# Altium footprint library Transformators_rus.PCBLIB: 18 footprints (part 1 of 2)
Each footprint in its own frame and in the unit in brackets; x right, y up, seen from the top. Pads: shape width x height; smd on the part's side, far side on the other; paste and mask are expansions set on the pad; w line width, h text height; cw(c..) or ccw(c..) is an arc to the next point about the centre after c.
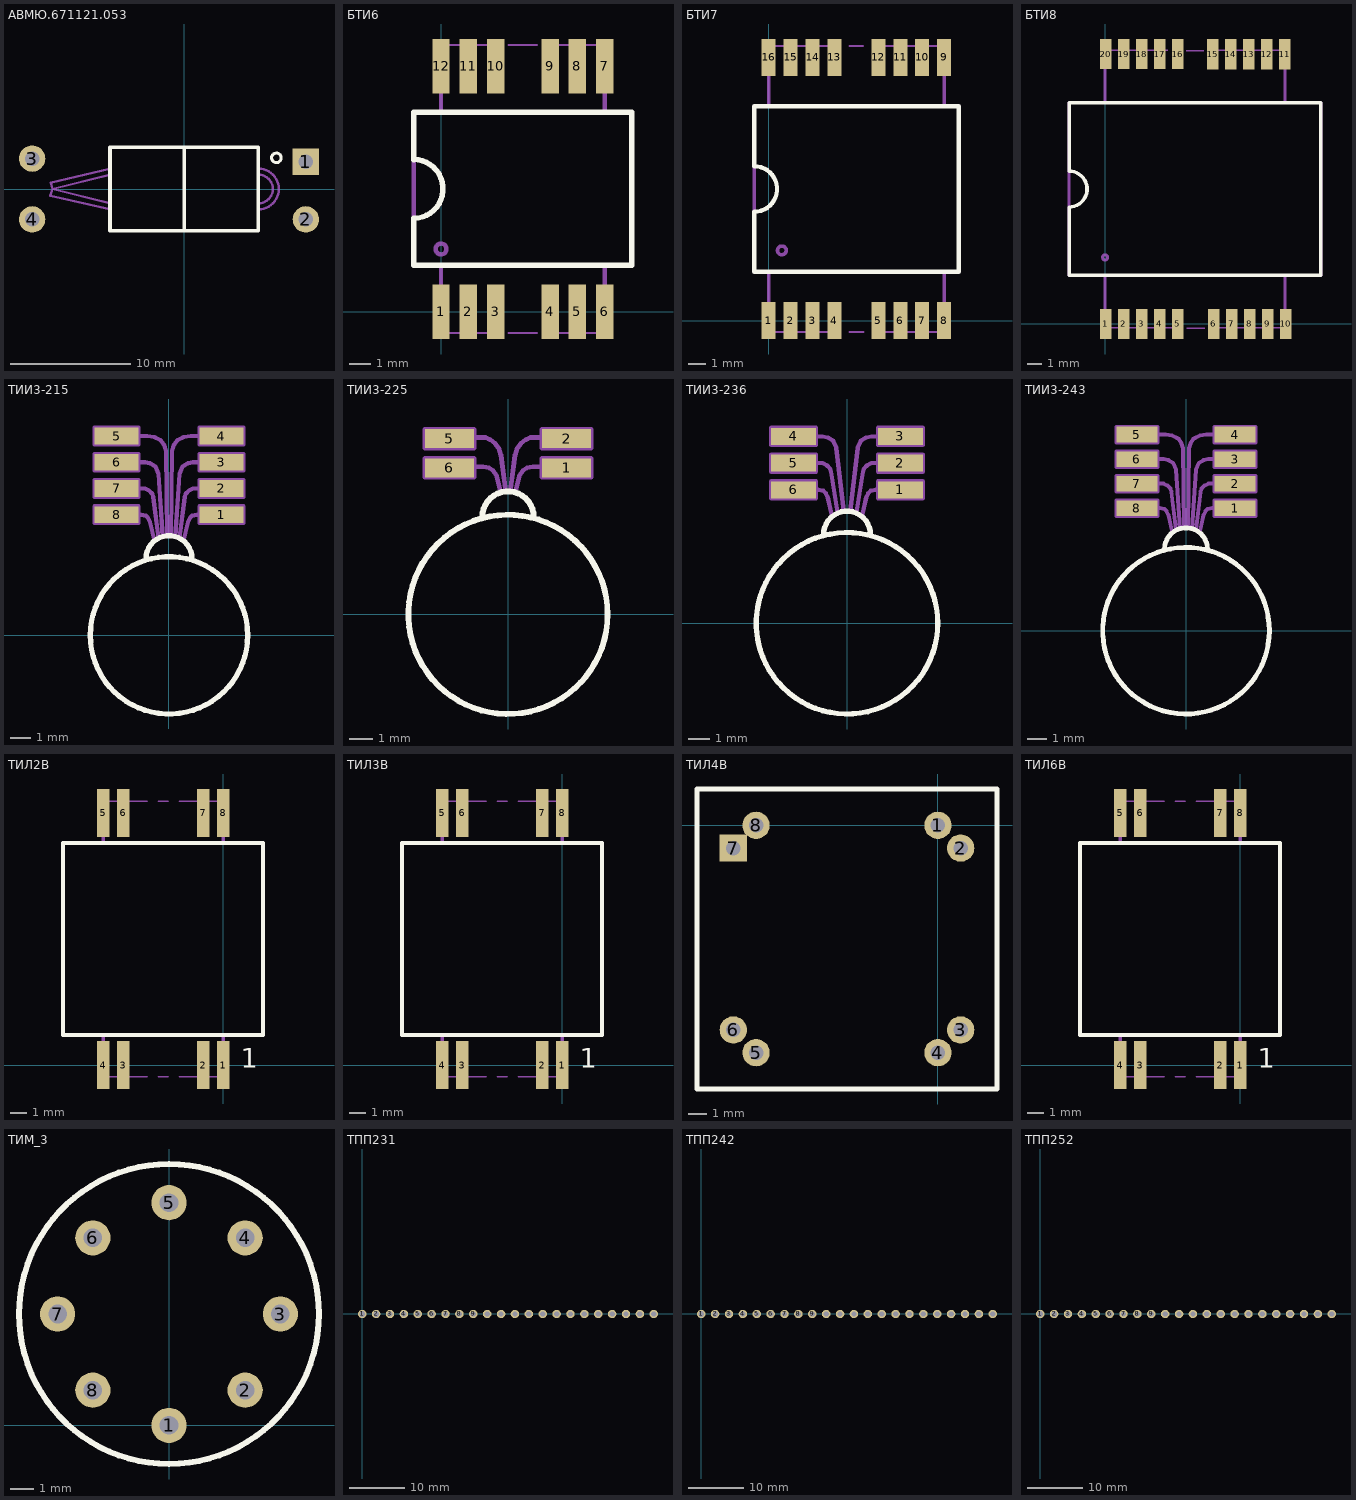
[diagram p0: the footprints below, top view; thin cyan lines are the x and y axes]

## АВМЮ.671121.053 [mm]
height 4.2
pads (4):
  rect 2.2x2.2 hole 1.2: 1(10.16,2.286)
  round 2.2 hole 1.2: 2(10.16,-2.54) 3(-12.7,2.54) 4(-12.7,-2.54)
Top Overlay:
  circle w0.254: c7.7,2.6 r0.4
  lines w0.3: 0,-3.5 0,3.5 ; -6.2,-3.5 -6.2,3.5 6.2,3.5 6.2,-3.5 -6.2,-3.5
Mechanical 1:
  lines w0.2: -6.2,-1.7 -11.192,-0.565 -11,0 ; -6.2,-1.2 -11,0 ; -6.2,1.2 -11,0 ; -6.2,1.7 -11.152,0.531 -11,0 ; 6.2,-1.7 ccw(c6.2,0) 6.2,1.7 ; 6.2,-1.2 ccw(c6.2,0) 6.2,1.2 ; 0,-3.5 0,3.5 ; 0,-3.5 6.2,-3.5 6.2,3.5 0,3.5 ; 0,-3.5 -6.2,-3.5 -6.2,3.5 0,3.5
  text ".Designator" at -3.1,4.3 h1.5
  text "1" at 12.5,1.7 h2
  text "2" at 12.6,-3.2 h2
  text "4" at -10.7,-3.4 h2
  text "3" at -10.4,2.1 h2
3D body: height 4.2, standoff 0, extent -11.22,-3.5 8.42,3.5

## БТИ6 [mm]
height 2.5
pads (12):
  rect 0.8x2.5 smd: 1(0,0) 2(1.25,0) 3(2.5,0) 4(5,0) 5(6.25,0) 6(7.5,0) 7(7.5,11.25) 8(6.25,11.25) 9(5,11.25) 10(2.5,11.25) 11(1.25,11.25) 12(0,11.25)
Top Overlay:
  lines w0.25: -1.251,4.28 ccw(c-1.26,5.63) -1.251,6.98 ; -1.25,4.275 -1.25,2.125 8.74,2.13 ; -1.25,6.975 -1.25,9.125 ; -1.25,9.15 8.75,9.15 ; 8.74,9.13 8.75,2.125
Mechanical 1:
  circle w0.2: c0,2.875 r0.25
  lines w0.1: 0,-0.975 2.5,-0.975 ; 0,12.225 2.5,12.225 ; 3.1,-0.975 4.4,-0.975 ; 3.1,12.225 4.4,12.225 ; 5,-0.975 7.5,-0.975 ; 5,12.225 7.5,12.225
  lines w0.2: 0,-0.975 0,2.025 ; 0,9.125 0,12.225 ; 7.5,-0.975 7.5,2.075 ; 7.5,9.125 7.5,12.225 ; -1.25,2.125 8.75,2.125 8.75,9.125 -1.25,9.125 -1.25,2.125
  text ".Designator" at 2.529,6.604 h1.5
  text ".Comment" at 0.629,4.504 h1.5
  text "12" at 0.762,10.414 h1.5

## БТИ7 [mm]
height 2.5
pads (16):
  rect 0.8x2.1 smd: 1(0,0) 2(1.25,0) 3(2.5,0) 4(3.75,0) 5(6.25,0) 6(7.5,0) 7(8.75,0) 8(10,0) 9(10,15) 10(8.75,15) 11(7.5,15) 12(6.25,15) 13(3.75,15) 14(2.5,15) 15(1.25,15) 16(0,15)
Top Overlay:
  lines w0.25: -0.825,2.775 -0.825,6.2 ccw(c-0.825,7.5) -0.825,8.8 -0.825,12.225 10.825,12.225 10.825,2.775 -0.825,2.775
Mechanical 1:
  circle w0.2: c0.75,4 r0.25
  lines w0.1: 0,-0.65 3.75,-0.65 ; 0,15.65 3.625,15.65 ; 4.6,-0.65 5.4,-0.65 ; 4.6,15.65 5.395,15.65 ; 6.25,-0.65 10,-0.65 ; 6.375,15.65 10,15.65
  lines w0.2: 0,-0.65 0,2.775 ; 0,12.225 0,15.65 ; 10,-0.65 10,2.775 ; 10,12.225 10,15.65 ; -0.825,2.775 -0.825,12.225 10.825,12.225 10.825,2.775 -0.825,2.775
  text ".Designator" at 3.926,8.382 h1.5
  text ".Comment" at 2.026,6.282 h1.5
  text "16" at 0.889,13.462 h1.5

## БТИ8 [mm]
height 4
pads (20):
  rect 0.8x2.1 smd: 1(0.045,0.005) 2(1.295,0.005) 3(2.545,0.005) 4(3.795,0.005) 5(5.045,0.005) 6(7.545,0.005) 7(8.795,0.005) 8(10.045,0.005) 9(11.295,0.005) 10(12.545,0.005) 11(12.5,18.75) 12(11.25,18.75) 13(10,18.75) 14(8.75,18.75) 15(7.5,18.75) 16(5.045,18.755) 17(3.795,18.755) 18(2.545,18.755) 19(1.295,18.755) 20(0.045,18.755)
Top Overlay:
  lines w0.25: -2.5,3.375 15,3.375 15,15.375 -2.5,15.375 -2.5,10.625 cw(c-2.5,9.375) -2.5,8.125 -2.5,3.375
Mechanical 1:
  circle w0.2: c0,4.625 r0.18
  lines w0.1: 0,-0.275 5,-0.275 ; 0,19.025 4.35,19.025 ; 5.625,19 6.875,19 ; 5.675,-0.3 6.925,-0.3 ; 7.5,-0.275 12.5,-0.275 ; 7.5,19.025 12.5,19.025
  lines w0.2: 0,-0.275 0,3.375 ; 0,15.375 0,19.025 ; 12.5,-0.275 12.5,3.375 ; 12.5,15.375 12.5,19.025 ; -2.5,3.375 15,3.375 15,15.375 -2.5,15.375 -2.5,3.375
  text "20" at 0.762,16.637 h1.5
  text ".Comment" at 3.296,8.187 h1.5
  text ".Designator" at 5.196,10.287 h1.5

## ТИИ3-215 [mm]
height 1.8
pads (8):
  rect 2.1x0.8 smd: 1(2.5,5.75) 2(2.5,7) 3(2.5,8.25) 4(2.5,9.5) 5(-2.5,9.5) 6(-2.5,8.25) 7(-2.5,7) 8(-2.5,5.75)
Top Overlay:
  circle w0.25: c0,0 r3.75
  lines w0.25: -1.1,3.65 cw(c0,3.65) 1.1,3.65
Mechanical 1:
  circle w0.2: c0,0 r3.75
  lines w0.2: -3,5.75 -1.35,5.75 -1.1,5.7 -1,5.6 -0.9,5.4 -0.7,4.5 ; -3,7 -1.15,7 -0.95,6.9 -0.8,6.75 -0.75,6.6 -0.5,4.65 ; -3,8.25 -1.15,8.25 -0.9,8.2 -0.65,8.05 -0.5,7.7 -0.3,4.7 ; -3,9.5 -1.05,9.5 -0.7,9.45 -0.4,9.3 -0.25,9.1 -0.15,8.8 -0.1,4.75 ; -1.1,3.65 cw(c0,3.65) 1.1,3.65 ; 0.1,4.75 0.15,8.8 0.25,9.1 0.4,9.3 0.7,9.45 1.05,9.5 3,9.5 ; 0.3,4.7 0.5,7.7 0.65,8.05 0.9,8.2 1.15,8.25 3,8.25 ; 0.5,4.65 0.75,6.6 0.8,6.75 0.95,6.9 1.15,7 3,7 ; 0.7,4.5 0.9,5.4 1,5.6 1.1,5.7 1.35,5.75 3,5.75 ; -3.55,5.35 -1.45,5.35 -1.45,6.15 -3.55,6.15 -3.55,5.35 ; -3.55,6.6 -1.45,6.6 -1.45,7.4 -3.55,7.4 -3.55,6.6 ; -3.55,7.85 -1.45,7.85 -1.45,8.65 -3.55,8.65 -3.55,7.85 ; -3.55,9.1 -1.45,9.1 -1.45,9.9 -3.55,9.9 -3.55,9.1 ; 1.45,5.35 3.55,5.35 3.55,6.15 1.45,6.15 1.45,5.35 ; 1.45,6.6 3.55,6.6 3.55,7.4 1.45,7.4 1.45,6.6 ; 1.45,7.85 3.55,7.85 3.55,8.65 1.45,8.65 1.45,7.85 ; 1.45,9.1 1.45,9.9 3.55,9.9 3.55,9.1 1.45,9.1
  text ".Designator" at -0.773,0.762 h1.5
  text ".Comment" at -2.673,-1.338 h1.5

## ТИИ3-225 [mm]
height 1.8
pads (4):
  rect 2.1x0.8 smd: 1(2.5,6.25) 2(2.5,7.5) 5(-2.5,7.5) 6(-2.5,6.25)
Top Overlay:
  circle w0.25: c0,0 r4.25
  lines w0.25: -1.1,4.15 cw(c0,4.15) 1.1,4.15
Mechanical 1:
  circle w0.2: c0,0 r4.25
  lines w0.2: -2.9,6.3 -1.05,6.3 -0.8,6.25 -0.65,6.15 -0.5,5.95 -0.3,5.2 ; -2.9,7.55 -0.95,7.55 -0.75,7.45 -0.55,7.3 -0.4,7.1 -0.3,6.8 -0.1,5.25 ; -1.1,4.15 cw(c0,4.15) 1.1,4.15 ; 0.1,5.25 0.3,6.8 0.4,7.1 0.55,7.3 0.75,7.45 0.95,7.55 2.9,7.55 ; 0.3,5.2 0.5,5.95 0.65,6.15 0.8,6.25 1.05,6.3 2.9,6.3 ; -3.55,5.85 -3.55,6.65 -1.45,6.65 -1.45,5.85 -3.55,5.85 ; -3.55,7.1 -3.55,7.9 -1.45,7.9 -1.45,7.1 -3.55,7.1 ; 1.45,5.85 1.45,6.65 3.55,6.65 3.55,5.85 1.45,5.85 ; 1.45,7.1 1.45,7.9 3.55,7.9 3.55,7.1 1.45,7.1
  text ".Designator" at -0.9,0.762 h1.5
  text ".Comment" at -2.8,-1.338 h1.5

## ТИИ3-236 [mm]
height 1.8
pads (6):
  rect 2.1x0.8 smd: 1(2.5,6.25) 2(2.5,7.5) 3(2.5,8.75) 4(-2.5,8.75) 5(-2.5,7.5) 6(-2.5,6.25)
Top Overlay:
  circle w0.25: c0,0 r4.25
  lines w0.25: -1.1,4.15 cw(c0,4.15) 1.1,4.15
Mechanical 1:
  circle w0.2: c0,0 r4.25
  lines w0.2: -3,6.25 -1.35,6.25 -1.1,6.2 -1,6.1 -0.9,5.9 -0.7,5 ; -3,7.5 -1.15,7.5 -0.95,7.4 -0.8,7.25 -0.75,7.1 -0.45,5.2 ; -3,8.75 -1.15,8.75 -0.9,8.7 -0.65,8.55 -0.5,8.2 -0.15,5.25 ; -1.1,4.15 cw(c0,4.15) 1.1,4.15 ; 0.15,5.25 0.5,8.2 0.65,8.55 0.9,8.7 1.15,8.75 3,8.75 ; 0.45,5.2 0.75,7.1 0.8,7.25 0.95,7.4 1.15,7.5 3,7.5 ; 0.7,5 0.9,5.9 1,6.1 1.1,6.2 1.35,6.25 3,6.25 ; -3.55,5.85 -3.55,6.65 -1.45,6.65 -1.45,5.85 -3.55,5.85 ; -3.55,7.1 -3.55,7.9 -1.45,7.9 -1.45,7.1 -3.55,7.1 ; -3.55,8.35 -3.55,9.15 -1.45,9.15 -1.45,8.35 -3.55,8.35 ; 1.45,5.85 1.45,6.65 3.55,6.65 3.55,5.85 1.45,5.85 ; 1.45,7.1 1.45,7.9 3.55,7.9 3.55,7.1 1.45,7.1 ; 1.45,8.35 1.45,9.15 3.55,9.15 3.55,8.35 1.45,8.35
  text ".Comment" at -3.181,-1.211 h1.5
  text ".Designator" at -1.281,0.889 h1.5

## ТИИ3-243 [mm]
height 1.8
pads (8):
  rect 2.1x0.8 smd: 1(2.5,6.25) 2(2.5,7.5) 3(2.5,8.75) 4(2.5,10) 5(-2.5,10) 6(-2.5,8.75) 7(-2.5,7.5) 8(-2.5,6.25)
Top Overlay:
  circle w0.25: c0,0 r4.25
  lines w0.25: -1.1,4.15 cw(c0,4.15) 1.1,4.15
Mechanical 1:
  circle w0.2: c0,0 r4.25
  lines w0.2: -3,6.25 -1.35,6.25 -1.1,6.2 -1,6.1 -0.9,5.9 -0.7,5 ; -3,7.5 -1.15,7.5 -0.95,7.4 -0.8,7.25 -0.75,7.1 -0.5,5.15 ; -3,8.75 -1.15,8.75 -0.9,8.7 -0.65,8.55 -0.5,8.2 -0.3,5.2 ; -3,10 -1.05,10 -0.7,9.95 -0.4,9.8 -0.25,9.6 -0.15,9.3 -0.1,5.25 ; -1.1,4.15 cw(c0,4.15) 1.1,4.15 ; 0.1,5.25 0.15,9.3 0.25,9.6 0.4,9.8 0.7,9.95 1.05,10 3,10 ; 0.3,5.2 0.5,8.2 0.65,8.55 0.9,8.7 1.15,8.75 3,8.75 ; 0.5,5.15 0.75,7.1 0.8,7.25 0.95,7.4 1.15,7.5 3,7.5 ; 0.7,5 0.9,5.9 1,6.1 1.1,6.2 1.35,6.25 3,6.25 ; -3.55,5.85 -3.55,6.65 -1.45,6.65 -1.45,5.85 -3.55,5.85 ; -3.55,7.1 -3.55,7.9 -1.45,7.9 -1.45,7.1 -3.55,7.1 ; -3.55,8.35 -3.55,9.15 -1.45,9.15 -1.45,8.35 -3.55,8.35 ; -3.55,9.6 -3.55,10.4 -1.45,10.4 -1.45,9.6 -3.55,9.6 ; 1.45,5.85 1.45,6.65 3.55,6.65 3.55,5.85 1.45,5.85 ; 1.45,7.1 1.45,7.9 3.55,7.9 3.55,7.1 1.45,7.1 ; 1.45,8.35 1.45,9.15 3.55,9.15 3.55,8.35 1.45,8.35 ; 1.45,9.6 1.45,10.4 3.55,10.4 3.55,9.6 1.45,9.6
  text ".Designator" at -0.773,1.143 h1.5
  text ".Comment" at -2.673,-0.957 h1.5

## ТИЛ2В [mm]
height 6.5
pads (8):
  rect 0.8x3 smd: 1(0,0) 2(-1.25,0) 3(-6.25,0) 4(-7.5,0) 5(-7.5,15.75) 6(-6.25,15.75) 7(-1.25,15.75) 8(0,15.75)
Top Overlay:
  lines w0.25: -10,1.875 -10,9.125 -10,13.875 2.5,13.875 2.5,1.875 -10,1.875
  text "1" at 1.11,-0.586 h2.12
Mechanical 1:
  lines w0.1: -7.5,-0.725 -4.75,-0.725 ; -7.5,16.475 -4.75,16.475 ; -4.05,-0.725 -3.45,-0.725 ; -4.05,16.475 -3.45,16.475 ; -2.75,-0.725 0,-0.725 ; -2.75,16.475 0,16.475
  lines w0.2: -7.5,-0.725 -7.5,1.875 ; -7.5,13.875 -7.5,16.475 ; 0,-0.725 0,1.875 ; 0,13.875 0,16.475 ; -10,1.875 -10,13.875 2.5,13.875 2.5,1.875 -10,1.875
  text ".Comment" at -7.245,5.774 h1.5
  text ".Designator" at -5.345,7.874 h1.5
  text "4" at -7.874,2.54 h1.5
  text "5" at -7.747,12.319 h1.5
  text "1" at -0.127,2.54 h1.5
  text "8" at -0.254,12.319 h1.5
3D body: height 6.7, standoff 0, extent -10,-0.675 2.5,16.425

## ТИЛ3В [mm]
height 6.5
pads (8):
  rect 0.8x3 smd: 1(0,0) 2(-1.25,0) 3(-6.25,0) 4(-7.5,0) 5(-7.5,15.75) 6(-6.25,15.75) 7(-1.25,15.75) 8(0,15.75)
Top Overlay:
  lines w0.25: -10,1.875 2.5,1.875 2.5,13.875 -10,13.875 -10,9.125 -10,1.875
  text "1" at 1.11,-0.586 h2.12
Mechanical 1:
  lines w0.1: -7.5,-0.725 -4.75,-0.725 ; -7.5,16.475 -4.75,16.475 ; -4.05,-0.725 -3.45,-0.725 ; -4.05,16.475 -3.45,16.475 ; -2.75,-0.725 0,-0.725 ; -2.75,16.475 0,16.475
  lines w0.2: -7.5,-0.725 -7.5,1.875 ; -7.5,13.875 -7.5,16.475 ; 0,-0.725 0,1.875 ; 0,13.875 0,16.475 ; -10,1.875 2.5,1.875 2.5,13.875 -10,13.875 -10,1.875
  text "8" at -0.254,12.319 h1.5
  text "1" at -0.127,2.54 h1.5
  text "5" at -7.747,12.319 h1.5
  text "4" at -7.874,2.54 h1.5
  text ".Designator" at -5.345,7.874 h1.5
  text ".Comment" at -7.245,5.774 h1.5
3D body: height 6.7, standoff 0, extent -10,-0.675 2.5,16.425

## ТИЛ4В [mm]
height 9
pads (8):
  round 1.5 hole 0.8 unplated: 1(0,0) 2(1.25,-1.25) 3(1.25,-11.25) 4(0,-12.5) 5(-10,-12.5) 6(-11.25,-11.25) 8(-10,0)
  rect 1.5x1.5 hole 0.8: 7(-11.25,-1.25)
Top Overlay:
  lines w0.25: -13.25,-14.5 -13.25,2 ; -13.25,-14.5 -13.25,2 ; -13.25,-14.5 3.25,-14.5 3.25,2 -13.25,2
Mechanical 1:
  lines w0.2: -13.25,-14.5 -13.25,2 3.25,2 3.25,-14.5 -13.25,-14.5
  text ".Designator" at -6.107,-5.588 h1.5
  text ".Comment" at -8.007,-7.688 h1.5

## ТИЛ6В [mm]
height 6.5
pads (8):
  rect 0.8x3 smd: 1(0,0) 2(-1.25,0) 3(-6.25,0) 4(-7.5,0) 5(-7.5,15.75) 6(-6.25,15.75) 7(-1.25,15.75) 8(0,15.75)
Top Overlay:
  lines w0.25: -10,1.875 -10,9.125 -10,13.875 2.5,13.875 2.5,1.875 -10,1.875
  text "1" at 1.11,-0.586 h2.12
Mechanical 1:
  lines w0.1: -7.5,-0.725 -4.75,-0.725 ; -7.5,16.475 -4.75,16.475 ; -4.05,-0.725 -3.45,-0.725 ; -4.05,16.475 -3.45,16.475 ; -2.75,-0.725 0,-0.725 ; -2.75,16.475 0,16.475
  lines w0.2: -7.5,-0.725 -7.5,1.875 ; -7.5,13.875 -7.5,16.475 ; 0,-0.725 0,1.875 ; 0,13.875 0,16.475 ; -10,1.875 -10,13.875 2.5,13.875 2.5,1.875 -10,1.875
  text ".Comment" at -7.245,5.774 h1.5
  text ".Designator" at -5.345,7.874 h1.5
  text "4" at -7.874,2.54 h1.5
  text "5" at -7.747,12.319 h1.5
  text "1" at -0.127,2.54 h1.5
  text "8" at -0.254,12.319 h1.5
3D body: height 6.7, standoff 0, extent -10,-0.675 2.5,16.425

## ТИМ_3 [mm]
height 8.6
pads (8):
  round 1.5 hole 0.8 unplated: 1(0,0) 2(3.25,1.5) 3(4.75,4.75) 4(3.25,8) 5(0,9.5) 6(-3.25,8) 7(-4.75,4.75) 8(-3.25,1.5)
Top Overlay:
  circle w0.25: c0,4.75 r6.4
Mechanical 1:
  circle w0.2: c0,4.75 r6.4
  text ".Comment" at -2.292,3.488 h1.5
  text ".Designator" at -0.392,5.588 h1.5
  text "1" at -0.728,0.593 h1.5

## ТПП231 [mil]
pads (22):
  round 60 hole 40: 1(0,0) 2(98.43,0)
  round 60 hole 38: 3(196.85,0) 4(295.28,0) 5(393.7,0) 6(492.13,0) 7(590.55,0) 8(688.98,0) 9(787.4,0) 10(885.83,0) 11(984.25,0) 12(1082.68,0) 13(1181.1,0) 14(1279.53,0) 15(1377.95,0) 16(1476.38,0) 17(1574.8,0) 18(1673.23,0) 19(1771.65,0) 20(1870.08,0) 21(1968.5,0) 22(2066.93,0)
Mechanical 1:
  text ".Designator" at 1019.57,160 h59.06
  text ".Comment" at 944.76,77.32 h59.06

## ТПП242 [mil]
pads (22):
  round 60 hole 40: 1(0,0) 2(98.43,0)
  round 60 hole 38: 3(196.85,0) 4(295.28,0) 5(393.7,0) 6(492.13,0) 7(590.55,0) 8(688.98,0) 9(787.4,0) 10(885.83,0) 11(984.25,0) 12(1082.68,0) 13(1181.1,0) 14(1279.53,0) 15(1377.95,0) 16(1476.38,0) 17(1574.8,0) 18(1673.23,0) 19(1771.65,0) 20(1870.08,0) 21(1968.5,0) 22(2066.93,0)
Mechanical 1:
  text ".Designator" at 1049.57,185 h59.06
  text ".Comment" at 974.76,102.32 h59.06

## ТПП252 [mil]
pads (22):
  round 60 hole 40: 1(0,0) 2(98.43,0)
  round 60 hole 38: 3(196.85,0) 4(295.28,0) 5(393.7,0) 6(492.13,0) 7(590.55,0) 8(688.98,0) 9(787.4,0) 10(885.83,0) 11(984.25,0) 12(1082.68,0) 13(1181.1,0) 14(1279.53,0) 15(1377.95,0) 16(1476.38,0) 17(1574.8,0) 18(1673.23,0) 19(1771.65,0) 20(1870.08,0) 21(1968.5,0) 22(2066.93,0)
Mechanical 1:
  text ".Comment" at 974.76,102.32 h59.06
  text ".Designator" at 1049.57,185 h59.06